# EAGLE library part STM32F105RCT6 (library Scott-MCU)
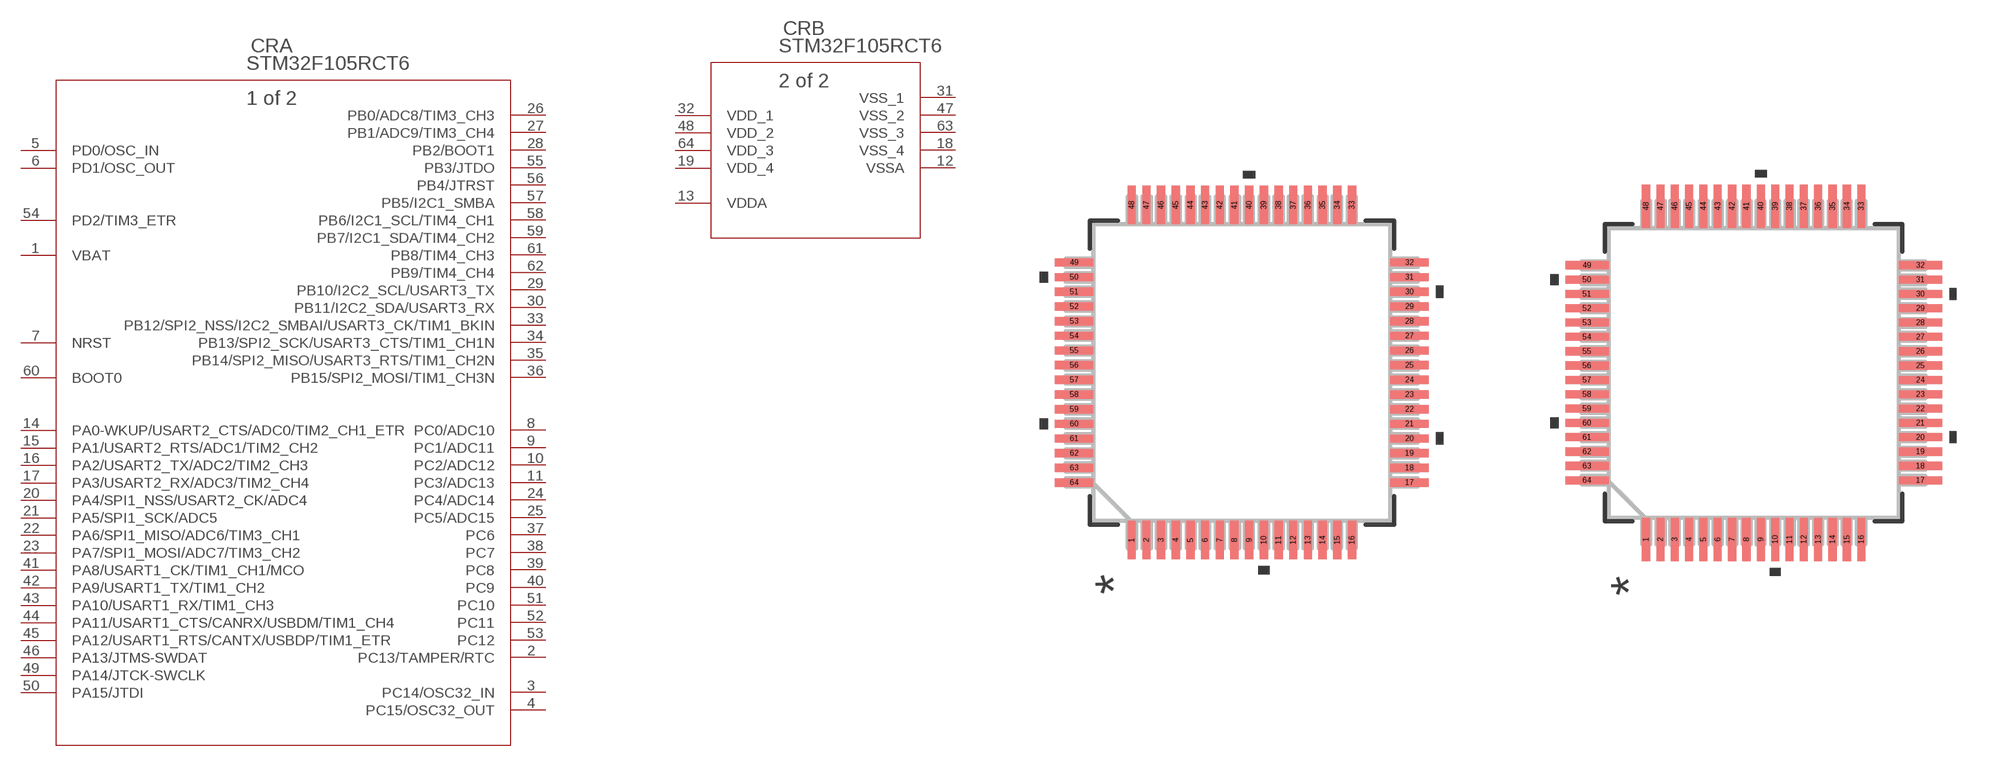
[diagram p7: symbol with the pads of LQFP-64_STM; footprints LQFP-64_STM, LQFP-64_STM-M]

Designator prefix CR; gates A=STM32F105RCT6 B=STM32F105RCT6_A

## STM32F105RCT6 (LCSC: C8345; MANUFACTURER_PART_NUMBER: STM32F105RCT6; VENDOR: STMicroelectronics)  [LQFP-64_STM]
1  A:VBAT
2  A:PC13/TAMPER/RTC
3  A:PC14/OSC32_IN
4  A:PC15/OSC32_OUT
5  A:PD0/OSC_IN
6  A:PD1/OSC_OUT
7  A:NRST
8  A:PC0/ADC10
9  A:PC1/ADC11
10  A:PC2/ADC12
11  A:PC3/ADC13
12  B:VSSA  in
13  B:VDDA  in
14  A:PA0-WKUP/USART2_CTS/ADC0/TIM2_CH1_ETR
15  A:PA1/USART2_RTS/ADC1/TIM2_CH2
16  A:PA2/USART2_TX/ADC2/TIM2_CH3
17  A:PA3/USART2_RX/ADC3/TIM2_CH4
18  B:VSS_4  in
19  B:VDD_4  in
20  A:PA4/SPI1_NSS/USART2_CK/ADC4
21  A:PA5/SPI1_SCK/ADC5
22  A:PA6/SPI1_MISO/ADC6/TIM3_CH1
23  A:PA7/SPI1_MOSI/ADC7/TIM3_CH2
24  A:PC4/ADC14
25  A:PC5/ADC15
26  A:PB0/ADC8/TIM3_CH3
27  A:PB1/ADC9/TIM3_CH4
28  A:PB2/BOOT1
29  A:PB10/I2C2_SCL/USART3_TX
30  A:PB11/I2C2_SDA/USART3_RX
31  B:VSS_1  in
32  B:VDD_1  in
33  A:PB12/SPI2_NSS/I2C2_SMBAI/USART3_CK/TIM1_BKIN
34  A:PB13/SPI2_SCK/USART3_CTS/TIM1_CH1N
35  A:PB14/SPI2_MISO/USART3_RTS/TIM1_CH2N
36  A:PB15/SPI2_MOSI/TIM1_CH3N
37  A:PC6
38  A:PC7
39  A:PC8
40  A:PC9
41  A:PA8/USART1_CK/TIM1_CH1/MCO
42  A:PA9/USART1_TX/TIM1_CH2
43  A:PA10/USART1_RX/TIM1_CH3
44  A:PA11/USART1_CTS/CANRX/USBDM/TIM1_CH4
45  A:PA12/USART1_RTS/CANTX/USBDP/TIM1_ETR
46  A:PA13/JTMS-SWDAT
47  B:VSS_2  in
48  B:VDD_2  in
49  A:PA14/JTCK-SWCLK
50  A:PA15/JTDI
51  A:PC10
52  A:PC11
53  A:PC12
54  A:PD2/TIM3_ETR
55  A:PB3/JTDO
56  A:PB4/JTRST
57  A:PB5/I2C1_SMBA
58  A:PB6/I2C1_SCL/TIM4_CH1
59  A:PB7/I2C1_SDA/TIM4_CH2
60  A:BOOT0  in
61  A:PB8/TIM4_CH3
62  A:PB9/TIM4_CH4
63  B:VSS_3  in
64  B:VDD_3  in

## STM32F105RCT6LQFP-64_STM-M (LCSC: C8345; MANUFACTURER_PART_NUMBER: STM32F105RCT6; VENDOR: STMicroelectronics)  [LQFP-64_STM-M]
Pads as for LQFP-64_STM

## STM32F105RCT6LQFP-64_STM-L (BUILT_BY: EMA_UL_Team; MANUFACTURER_PART_NUMBER: STM32F105RCT6; SOURCELIBRARY: StMicro_2011-06-07; VENDOR: STMicroelectronics)  [LQFP-64_STM-L]
Pads as for LQFP-64_STM

## Footprint LQFP-64_STM (pad centres in mm)
smd 0.279 x 1.308: 1 -3.75,-5.709; 2 -3.25,-5.709; 3 -2.75,-5.709; 4 -2.25,-5.709; 5 -1.75,-5.709; 6 -1.25,-5.709; 7 -0.75,-5.709; 8 -0.25,-5.709; 9 0.25,-5.709; 10 0.75,-5.709; 11 1.25,-5.709; 12 1.75,-5.709; 13 2.25,-5.709; 14 2.75,-5.709; 15 3.25,-5.709; 16 3.75,-5.709; 33 3.75,5.709; 34 3.25,5.709; 35 2.75,5.709; 36 2.25,5.709; 37 1.75,5.709; 38 1.25,5.709; 39 0.75,5.709; 40 0.25,5.709; 41 -0.25,5.709; 42 -0.75,5.709; 43 -1.25,5.709; 44 -1.75,5.709; 45 -2.25,5.709; 46 -2.75,5.709; 47 -3.25,5.709; 48 -3.75,5.709
smd 1.308 x 0.279: 17 5.709,-3.75; 18 5.709,-3.25; 19 5.709,-2.75; 20 5.709,-2.25; 21 5.709,-1.75; 22 5.709,-1.25; 23 5.709,-0.75; 24 5.709,-0.25; 25 5.709,0.25; 26 5.709,0.75; 27 5.709,1.25; 28 5.709,1.75; 29 5.709,2.25; 30 5.709,2.75; 31 5.709,3.25; 32 5.709,3.75; 49 -5.709,3.75; 50 -5.709,3.25; 51 -5.709,2.75; 52 -5.709,2.25; 53 -5.709,1.75; 54 -5.709,1.25; 55 -5.709,0.75; 56 -5.709,0.25; 57 -5.709,-0.25; 58 -5.709,-0.75; 59 -5.709,-1.25; 60 -5.709,-1.75; 61 -5.709,-2.25; 62 -5.709,-2.75; 63 -5.709,-3.25; 64 -5.709,-3.75

## Footprint LQFP-64_STM-M (pad centres in mm)
smd 0.279 x 1.511: 1 -3.75,-5.81; 2 -3.25,-5.81; 3 -2.75,-5.81; 4 -2.25,-5.81; 5 -1.75,-5.81; 6 -1.25,-5.81; 7 -0.75,-5.81; 8 -0.25,-5.81; 9 0.25,-5.81; 10 0.75,-5.81; 11 1.25,-5.81; 12 1.75,-5.81; 13 2.25,-5.81; 14 2.75,-5.81; 15 3.25,-5.81; 16 3.75,-5.81; 33 3.75,5.81; 34 3.25,5.81; 35 2.75,5.81; 36 2.25,5.81; 37 1.75,5.81; 38 1.25,5.81; 39 0.75,5.81; 40 0.25,5.81; 41 -0.25,5.81; 42 -0.75,5.81; 43 -1.25,5.81; 44 -1.75,5.81; 45 -2.25,5.81; 46 -2.75,5.81; 47 -3.25,5.81; 48 -3.75,5.81
smd 1.511 x 0.279: 17 5.81,-3.75; 18 5.81,-3.25; 19 5.81,-2.75; 20 5.81,-2.25; 21 5.81,-1.75; 22 5.81,-1.25; 23 5.81,-0.75; 24 5.81,-0.25; 25 5.81,0.25; 26 5.81,0.75; 27 5.81,1.25; 28 5.81,1.75; 29 5.81,2.25; 30 5.81,2.75; 31 5.81,3.25; 32 5.81,3.75; 49 -5.81,3.75; 50 -5.81,3.25; 51 -5.81,2.75; 52 -5.81,2.25; 53 -5.81,1.75; 54 -5.81,1.25; 55 -5.81,0.75; 56 -5.81,0.25; 57 -5.81,-0.25; 58 -5.81,-0.75; 59 -5.81,-1.25; 60 -5.81,-1.75; 61 -5.81,-2.25; 62 -5.81,-2.75; 63 -5.81,-3.25; 64 -5.81,-3.75

## Footprint LQFP-64_STM-L (pad centres in mm)
smd 0.229 x 1.105: 1 -3.75,-5.607; 2 -3.25,-5.607; 3 -2.75,-5.607; 4 -2.25,-5.607; 5 -1.75,-5.607; 6 -1.25,-5.607; 7 -0.75,-5.607; 8 -0.25,-5.607; 9 0.25,-5.607; 10 0.75,-5.607; 11 1.25,-5.607; 12 1.75,-5.607; 13 2.25,-5.607; 14 2.75,-5.607; 15 3.25,-5.607; 16 3.75,-5.607; 33 3.75,5.607; 34 3.25,5.607; 35 2.75,5.607; 36 2.25,5.607; 37 1.75,5.607; 38 1.25,5.607; 39 0.75,5.607; 40 0.25,5.607; 41 -0.25,5.607; 42 -0.75,5.607; 43 -1.25,5.607; 44 -1.75,5.607; 45 -2.25,5.607; 46 -2.75,5.607; 47 -3.25,5.607; 48 -3.75,5.607
smd 1.105 x 0.229: 17 5.607,-3.75; 18 5.607,-3.25; 19 5.607,-2.75; 20 5.607,-2.25; 21 5.607,-1.75; 22 5.607,-1.25; 23 5.607,-0.75; 24 5.607,-0.25; 25 5.607,0.25; 26 5.607,0.75; 27 5.607,1.25; 28 5.607,1.75; 29 5.607,2.25; 30 5.607,2.75; 31 5.607,3.25; 32 5.607,3.75; 49 -5.607,3.75; 50 -5.607,3.25; 51 -5.607,2.75; 52 -5.607,2.25; 53 -5.607,1.75; 54 -5.607,1.25; 55 -5.607,0.75; 56 -5.607,0.25; 57 -5.607,-0.25; 58 -5.607,-0.75; 59 -5.607,-1.25; 60 -5.607,-1.75; 61 -5.607,-2.25; 62 -5.607,-2.75; 63 -5.607,-3.25; 64 -5.607,-3.75